# Altium integrated library Random.IntLib: 13 symbols
Pins are listed as number, name and electrical type; pins without a type are passive.

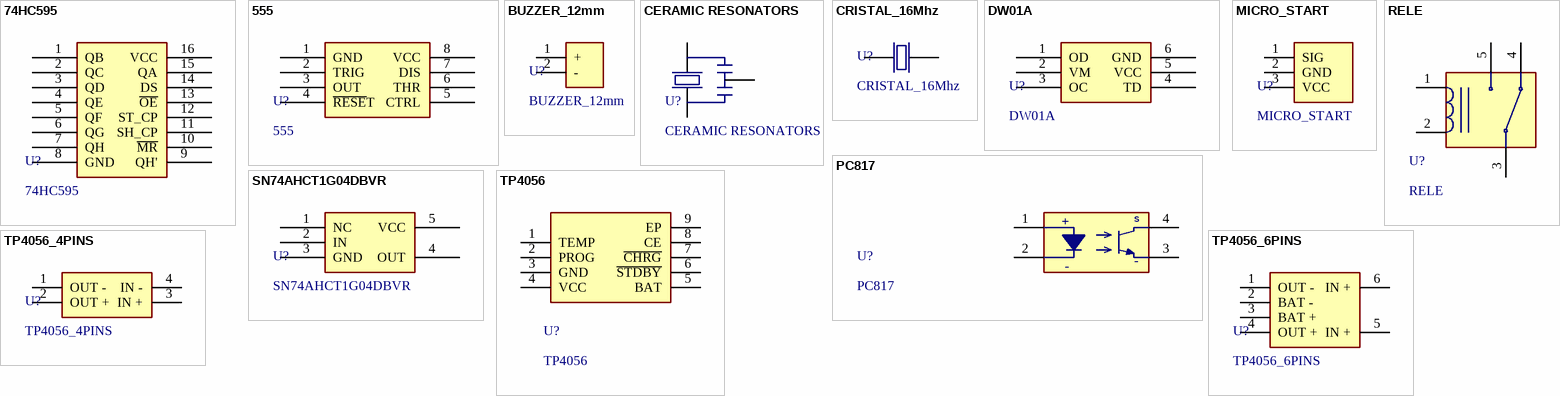
[diagram p0: symbols 74HC595 to TP4056_6PINS]

## 74HC595
designator U?
SHIFT REGISTER 8-BIT DIP-16; ComponentLink1Description: Datasheet; ComponentLink1URL: https://www.ti.com/lit/ds/symlink/sn74hc595.pdf?ts=1673556046554&ref_url=https%253A%252F%252Fwww.ti.com%252Fproduct%252FSN74HC595
footprint 74HC595 (SHIFT REGISTER 8-BIT DIP-16)
pins: 1 QB, 2 QC, 3 QD, 4 QE, 5 QF, 6 QG, 7 QH, 8 GND, 9 QH', 10 ~{MR}, 11 SH_CP, 12 ST_CP, 13 ~{OE}, 14 DS, 15 QA, 16 VCC

## 555
designator U?
CI TIMER/OSCILATOR 100kHz; ComponentLink1Description: Datasheet; ComponentLink1URL: https://www.ti.com/lit/ds/symlink/ne555.pdf?HQS=dis-mous-null-mousermode-dsf-pf-null-wwe&ts=1678668318661&ref_url=https%253A%252F%252Fwww.mouser.com%252F
footprint NE555_PTH
footprint NE555_SMD
pins: 1 GND, 2 TRIG, 3 OUT, 4 ~{RESE}T, 5 CTRL, 6 THR, 7 DIS, 8 VCC

## BUZZER_12mm
designator U?
BUZZER MAGNETIC 12MM; Digikey PN: 433-WT-1209T-ND; Mouser PN: 433-WT-1209T-ND
footprint BUZZER_12mm (BUZZER MAGNETIC 12MM)
pins: 1 +, 2 -

## CERAMIC RESONATORS
designator U?
3.2x1.3
footprint CERAMIC_RESONATOR
pins: 1 (power), 2 (power), 3 (power)

## CRISTAL_16Mhz
designator U?
CRYSTAL 16MHZ PTH; Mouser PN: 449-LFXTAL022786BULK; Digikey PN: 3155-16M20P2/49US-ND
footprint CRISTAL_16Mhz (CRYSTAL 16MHZ PTH)
footprint CRISTAL_16Mhz_SMD
pins: 1 (power), 2 (power)

## DW01A
designator U?
BATTERY PROTECTION IC  SOT-23-6; ComponentLink1Description: Datasheet; ComponentLink1URL: https://datasheet.lcsc.com/szlcsc/1901091236_PUOLOP-DW01A_C351410.pdf
footprint DW01A (BATTERY PROTECTION IC)
pins: 1 OD, 2 VM, 3 OC, 4 TD, 5 VCC, 6 GND

## MICRO_START
designator U?
footprint MICRO_START
pins: 1 SIG, 2 GND, 3 VCC

## PC817
designator U?
footprint PC817_SMD
pins: 1 VCC, 2 GND, 3 GND, 4 SIGNAL
text: +; S; -

## RELE
designator U?
footprint RELE
pins: 1, 2, 3, 4, 5

## SN74AHCT1G04DBVR
designator U?
CI SINGLE INVERTER GATE; Digikey PN: 296-1112-2-ND; Mouser PN: 595-SN74AHCT1G04DBVR; ComponentLink1Description: Datasheet; ComponentLink1URL: https://www.ti.com/lit/ds/symlink/sn74ahct1g04.pdf?ts=1678680622800&ref_url=https%253A%252F%252Fwww.google.com%252F
footprint SN74AHCT1G04DBVR
pins: 1 NC, 2 IN, 3 GND, 4 OUT, 5 VCC

## TP4056
designator U?
CHIP BATTERY CHARGER 1A SOP-8; ComponentLink1Description: Datasheet; ComponentLink1URL: https://dlnmh9ip6v2uc.cloudfront.net/datasheets/Prototyping/TP4056.pdf
footprint TP4056 (CHIP BATTERY CHARGER)
pins: 1 TEMP, 2 PROG, 3 GND, 4 VCC, 5 BAT, 6 ~{STDBY}, 7 ~{CHRG}, 8 CE, 9 EP

## TP4056_4PINS
designator U?
MODULE BATTERY CHARGER 4 PINS
footprint TP4056_4PINs (MODULE BATTERY CHARGER)
pins: 1 OUT -, 2 OUT +, 3 IN +, 4 IN -

## TP4056_6PINS
designator U?
MODULE BATTERY CHARGER 6 PINS
footprint TP4056_6PINs (MODULE BATTERY CHARGER)
pins: 1 OUT -, 2 BAT -, 3 BAT +, 4 OUT +, 5 IN +, 6 IN +